# Altium footprint library IC_BQ27441DRZR-G1A.PcbLib: 1 footprints
Each footprint in its own frame and in the unit in brackets; x right, y up, seen from the top. Pads: shape width x height; smd on the part's side, far side on the other; paste and mask are expansions set on the pad; w line width, h text height; cw(c..) or ccw(c..) is an arc to the next point about the centre after c.
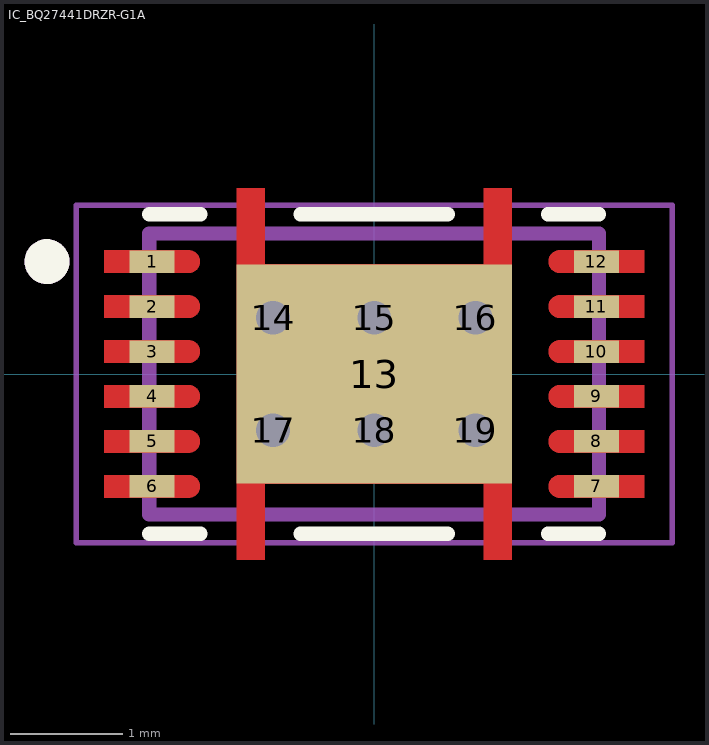
[diagram p0: the footprint, top view; thin cyan lines are the x and y axes]

## IC_BQ27441DRZR-G1A [mm]
pads (19):
  rect 0.4x0.2 smd paste-1 mask+0: 1(-1.975,1) 2(-1.975,0.6) 3(-1.975,0.2) 4(-1.975,-0.2) 5(-1.975,-0.6) 6(-1.975,-1) 7(1.975,-1) 8(1.975,-0.6) 9(1.975,-0.2) 10(1.975,0.2) 11(1.975,0.6) 12(1.975,1)
  rect 2.45x1.95 smd paste-2 mask+0: 13(0,0)
  round 0.5 hole 0.3: 14(-0.9,0.5) 15(0,0.5) 16(0.9,0.5) 17(-0.9,-0.5) 18(0,-0.5) 19(0.9,-0.5)
Top Layer:
  region: 2.4,0.9 1.65,0.9 1.645,0.9 1.64,0.901 1.634,0.901 1.629,0.902 1.624,0.903 1.619,0.905 1.614,0.907 1.609,0.909 1.605,0.911 1.6,0.913 1.596,0.916 1.591,0.919 1.587,0.922 1.583,0.926 1.579,0.929 1.576,0.933 1.572,0.937 1.569,0.941 1.566,0.946 1.563,0.95 1.561,0.955 1.559,0.959 1.557,0.964 1.555,0.969 1.553,0.974 1.552,0.979 1.551,0.984 1.551,0.99 1.55,0.995 1.55,1 1.55,1.005 1.551,1.01 1.551,1.016 1.552,1.021 1.553,1.026 1.555,1.031 1.557,1.036 1.559,1.041 1.561,1.045 1.563,1.05 1.566,1.054 1.569,1.059 1.572,1.063 1.576,1.067 1.579,1.071 1.583,1.074 1.587,1.078 1.591,1.081 1.596,1.084 1.6,1.087 1.605,1.089 1.609,1.091 1.614,1.093 1.619,1.095 1.624,1.097 1.629,1.098 1.634,1.099 1.64,1.099 1.645,1.1 1.65,1.1 2.4,1.1
  region: 2.4,0.5 1.65,0.5 1.645,0.5 1.64,0.501 1.634,0.501 1.629,0.502 1.624,0.503 1.619,0.505 1.614,0.507 1.609,0.509 1.605,0.511 1.6,0.513 1.596,0.516 1.591,0.519 1.587,0.522 1.583,0.526 1.579,0.529 1.576,0.533 1.572,0.537 1.569,0.541 1.566,0.546 1.563,0.55 1.561,0.555 1.559,0.559 1.557,0.564 1.555,0.569 1.553,0.574 1.552,0.579 1.551,0.584 1.551,0.59 1.55,0.595 1.55,0.6 1.55,0.605 1.551,0.61 1.551,0.616 1.552,0.621 1.553,0.626 1.555,0.631 1.557,0.636 1.559,0.641 1.561,0.645 1.563,0.65 1.566,0.654 1.569,0.659 1.572,0.663 1.576,0.667 1.579,0.671 1.583,0.674 1.587,0.678 1.591,0.681 1.596,0.684 1.6,0.687 1.605,0.689 1.609,0.691 1.614,0.693 1.619,0.695 1.624,0.697 1.629,0.698 1.634,0.699 1.64,0.699 1.645,0.7 1.65,0.7 2.4,0.7
  region: 2.4,0.1 1.65,0.1 1.645,0.1 1.64,0.101 1.634,0.101 1.629,0.102 1.624,0.103 1.619,0.105 1.614,0.107 1.609,0.109 1.605,0.111 1.6,0.113 1.596,0.116 1.591,0.119 1.587,0.122 1.583,0.126 1.579,0.129 1.576,0.133 1.572,0.137 1.569,0.141 1.566,0.146 1.563,0.15 1.561,0.155 1.559,0.159 1.557,0.164 1.555,0.169 1.553,0.174 1.552,0.179 1.551,0.184 1.551,0.19 1.55,0.195 1.55,0.2 1.55,0.205 1.551,0.21 1.551,0.216 1.552,0.221 1.553,0.226 1.555,0.231 1.557,0.236 1.559,0.241 1.561,0.245 1.563,0.25 1.566,0.254 1.569,0.259 1.572,0.263 1.576,0.267 1.579,0.271 1.583,0.274 1.587,0.278 1.591,0.281 1.596,0.284 1.6,0.287 1.605,0.289 1.609,0.291 1.614,0.293 1.619,0.295 1.624,0.297 1.629,0.298 1.634,0.299 1.64,0.299 1.645,0.3 1.65,0.3 2.4,0.3
  region: 2.4,-0.3 1.65,-0.3 1.645,-0.3 1.64,-0.299 1.634,-0.299 1.629,-0.298 1.624,-0.297 1.619,-0.295 1.614,-0.293 1.609,-0.291 1.605,-0.289 1.6,-0.287 1.596,-0.284 1.591,-0.281 1.587,-0.278 1.583,-0.274 1.579,-0.271 1.576,-0.267 1.572,-0.263 1.569,-0.259 1.566,-0.254 1.563,-0.25 1.561,-0.245 1.559,-0.241 1.557,-0.236 1.555,-0.231 1.553,-0.226 1.552,-0.221 1.551,-0.216 1.551,-0.21 1.55,-0.205 1.55,-0.2 1.55,-0.195 1.551,-0.19 1.551,-0.184 1.552,-0.179 1.553,-0.174 1.555,-0.169 1.557,-0.164 1.559,-0.159 1.561,-0.155 1.563,-0.15 1.566,-0.146 1.569,-0.141 1.572,-0.137 1.576,-0.133 1.579,-0.129 1.583,-0.126 1.587,-0.122 1.591,-0.119 1.596,-0.116 1.6,-0.113 1.605,-0.111 1.609,-0.109 1.614,-0.107 1.619,-0.105 1.624,-0.103 1.629,-0.102 1.634,-0.101 1.64,-0.101 1.645,-0.1 1.65,-0.1 2.4,-0.1
  region: 2.4,-0.7 1.65,-0.7 1.645,-0.7 1.64,-0.699 1.634,-0.699 1.629,-0.698 1.624,-0.697 1.619,-0.695 1.614,-0.693 1.609,-0.691 1.605,-0.689 1.6,-0.687 1.596,-0.684 1.591,-0.681 1.587,-0.678 1.583,-0.674 1.579,-0.671 1.576,-0.667 1.572,-0.663 1.569,-0.659 1.566,-0.654 1.563,-0.65 1.561,-0.645 1.559,-0.641 1.557,-0.636 1.555,-0.631 1.553,-0.626 1.552,-0.621 1.551,-0.616 1.551,-0.61 1.55,-0.605 1.55,-0.6 1.55,-0.595 1.551,-0.59 1.551,-0.584 1.552,-0.579 1.553,-0.574 1.555,-0.569 1.557,-0.564 1.559,-0.559 1.561,-0.555 1.563,-0.55 1.566,-0.546 1.569,-0.541 1.572,-0.537 1.576,-0.533 1.579,-0.529 1.583,-0.526 1.587,-0.522 1.591,-0.519 1.596,-0.516 1.6,-0.513 1.605,-0.511 1.609,-0.509 1.614,-0.507 1.619,-0.505 1.624,-0.503 1.629,-0.502 1.634,-0.501 1.64,-0.501 1.645,-0.5 1.65,-0.5 2.4,-0.5
  region: 2.4,-1.1 1.65,-1.1 1.645,-1.1 1.64,-1.099 1.634,-1.099 1.629,-1.098 1.624,-1.097 1.619,-1.095 1.614,-1.093 1.609,-1.091 1.605,-1.089 1.6,-1.087 1.596,-1.084 1.591,-1.081 1.587,-1.078 1.583,-1.074 1.579,-1.071 1.576,-1.067 1.572,-1.063 1.569,-1.059 1.566,-1.054 1.563,-1.05 1.561,-1.045 1.559,-1.041 1.557,-1.036 1.555,-1.031 1.553,-1.026 1.552,-1.021 1.551,-1.016 1.551,-1.01 1.55,-1.005 1.55,-1 1.55,-0.995 1.551,-0.99 1.551,-0.984 1.552,-0.979 1.553,-0.974 1.555,-0.969 1.557,-0.964 1.559,-0.959 1.561,-0.955 1.563,-0.95 1.566,-0.946 1.569,-0.941 1.572,-0.937 1.576,-0.933 1.579,-0.929 1.583,-0.926 1.587,-0.922 1.591,-0.919 1.596,-0.916 1.6,-0.913 1.605,-0.911 1.609,-0.909 1.614,-0.907 1.619,-0.905 1.624,-0.903 1.629,-0.902 1.634,-0.901 1.64,-0.901 1.645,-0.9 1.65,-0.9 2.4,-0.9
  region: -1.645,-0.9 -1.64,-0.901 -1.634,-0.901 -1.629,-0.902 -1.624,-0.903 -1.619,-0.905 -1.614,-0.907 -1.609,-0.909 -1.605,-0.911 -1.6,-0.913 -1.596,-0.916 -1.591,-0.919 -1.587,-0.922 -1.583,-0.926 -1.579,-0.929 -1.576,-0.933 -1.572,-0.937 -1.569,-0.941 -1.566,-0.946 -1.563,-0.95 -1.561,-0.955 -1.559,-0.959 -1.557,-0.964 -1.555,-0.969 -1.553,-0.974 -1.552,-0.979 -1.551,-0.984 -1.551,-0.99 -1.55,-0.995 -1.55,-1 -1.55,-1.005 -1.551,-1.01 -1.551,-1.016 -1.552,-1.021 -1.553,-1.026 -1.555,-1.031 -1.557,-1.036 -1.559,-1.041 -1.561,-1.045 -1.563,-1.05 -1.566,-1.054 -1.569,-1.059 -1.572,-1.063 -1.576,-1.067 -1.579,-1.071 -1.583,-1.074 -1.587,-1.078 -1.591,-1.081 -1.596,-1.084 -1.6,-1.087 -1.605,-1.089 -1.609,-1.091 -1.614,-1.093 -1.619,-1.095 -1.624,-1.097 -1.629,-1.098 -1.634,-1.099 -1.64,-1.099 -1.645,-1.1 -1.65,-1.1 -2.4,-1.1 -2.4,-0.9 -1.65,-0.9
  region: -1.645,-0.5 -1.64,-0.501 -1.634,-0.501 -1.629,-0.502 -1.624,-0.503 -1.619,-0.505 -1.614,-0.507 -1.609,-0.509 -1.605,-0.511 -1.6,-0.513 -1.596,-0.516 -1.591,-0.519 -1.587,-0.522 -1.583,-0.526 -1.579,-0.529 -1.576,-0.533 -1.572,-0.537 -1.569,-0.541 -1.566,-0.546 -1.563,-0.55 -1.561,-0.555 -1.559,-0.559 -1.557,-0.564 -1.555,-0.569 -1.553,-0.574 -1.552,-0.579 -1.551,-0.584 -1.551,-0.59 -1.55,-0.595 -1.55,-0.6 -1.55,-0.605 -1.551,-0.61 -1.551,-0.616 -1.552,-0.621 -1.553,-0.626 -1.555,-0.631 -1.557,-0.636 -1.559,-0.641 -1.561,-0.645 -1.563,-0.65 -1.566,-0.654 -1.569,-0.659 -1.572,-0.663 -1.576,-0.667 -1.579,-0.671 -1.583,-0.674 -1.587,-0.678 -1.591,-0.681 -1.596,-0.684 -1.6,-0.687 -1.605,-0.689 -1.609,-0.691 -1.614,-0.693 -1.619,-0.695 -1.624,-0.697 -1.629,-0.698 -1.634,-0.699 -1.64,-0.699 -1.645,-0.7 -1.65,-0.7 -2.4,-0.7 -2.4,-0.5 -1.65,-0.5
  region: -1.645,-0.1 -1.64,-0.101 -1.634,-0.101 -1.629,-0.102 -1.624,-0.103 -1.619,-0.105 -1.614,-0.107 -1.609,-0.109 -1.605,-0.111 -1.6,-0.113 -1.596,-0.116 -1.591,-0.119 -1.587,-0.122 -1.583,-0.126 -1.579,-0.129 -1.576,-0.133 -1.572,-0.137 -1.569,-0.141 -1.566,-0.146 -1.563,-0.15 -1.561,-0.155 -1.559,-0.159 -1.557,-0.164 -1.555,-0.169 -1.553,-0.174 -1.552,-0.179 -1.551,-0.184 -1.551,-0.19 -1.55,-0.195 -1.55,-0.2 -1.55,-0.205 -1.551,-0.21 -1.551,-0.216 -1.552,-0.221 -1.553,-0.226 -1.555,-0.231 -1.557,-0.236 -1.559,-0.241 -1.561,-0.245 -1.563,-0.25 -1.566,-0.254 -1.569,-0.259 -1.572,-0.263 -1.576,-0.267 -1.579,-0.271 -1.583,-0.274 -1.587,-0.278 -1.591,-0.281 -1.596,-0.284 -1.6,-0.287 -1.605,-0.289 -1.609,-0.291 -1.614,-0.293 -1.619,-0.295 -1.624,-0.297 -1.629,-0.298 -1.634,-0.299 -1.64,-0.299 -1.645,-0.3 -1.65,-0.3 -2.4,-0.3 -2.4,-0.1 -1.65,-0.1
  region: -1.645,0.3 -1.64,0.299 -1.634,0.299 -1.629,0.298 -1.624,0.297 -1.619,0.295 -1.614,0.293 -1.609,0.291 -1.605,0.289 -1.6,0.287 -1.596,0.284 -1.591,0.281 -1.587,0.278 -1.583,0.274 -1.579,0.271 -1.576,0.267 -1.572,0.263 -1.569,0.259 -1.566,0.254 -1.563,0.25 -1.561,0.245 -1.559,0.241 -1.557,0.236 -1.555,0.231 -1.553,0.226 -1.552,0.221 -1.551,0.216 -1.551,0.21 -1.55,0.205 -1.55,0.2 -1.55,0.195 -1.551,0.19 -1.551,0.184 -1.552,0.179 -1.553,0.174 -1.555,0.169 -1.557,0.164 -1.559,0.159 -1.561,0.155 -1.563,0.15 -1.566,0.146 -1.569,0.141 -1.572,0.137 -1.576,0.133 -1.579,0.129 -1.583,0.126 -1.587,0.122 -1.591,0.119 -1.596,0.116 -1.6,0.113 -1.605,0.111 -1.609,0.109 -1.614,0.107 -1.619,0.105 -1.624,0.103 -1.629,0.102 -1.634,0.101 -1.64,0.101 -1.645,0.1 -1.65,0.1 -2.4,0.1 -2.4,0.3 -1.65,0.3
  region: -1.645,0.7 -1.64,0.699 -1.634,0.699 -1.629,0.698 -1.624,0.697 -1.619,0.695 -1.614,0.693 -1.609,0.691 -1.605,0.689 -1.6,0.687 -1.596,0.684 -1.591,0.681 -1.587,0.678 -1.583,0.674 -1.579,0.671 -1.576,0.667 -1.572,0.663 -1.569,0.659 -1.566,0.654 -1.563,0.65 -1.561,0.645 -1.559,0.641 -1.557,0.636 -1.555,0.631 -1.553,0.626 -1.552,0.621 -1.551,0.616 -1.551,0.61 -1.55,0.605 -1.55,0.6 -1.55,0.595 -1.551,0.59 -1.551,0.584 -1.552,0.579 -1.553,0.574 -1.555,0.569 -1.557,0.564 -1.559,0.559 -1.561,0.555 -1.563,0.55 -1.566,0.546 -1.569,0.541 -1.572,0.537 -1.576,0.533 -1.579,0.529 -1.583,0.526 -1.587,0.522 -1.591,0.519 -1.596,0.516 -1.6,0.513 -1.605,0.511 -1.609,0.509 -1.614,0.507 -1.619,0.505 -1.624,0.503 -1.629,0.502 -1.634,0.501 -1.64,0.501 -1.645,0.5 -1.65,0.5 -2.4,0.5 -2.4,0.7 -1.65,0.7
  region: -1.645,1.1 -1.64,1.099 -1.634,1.099 -1.629,1.098 -1.624,1.097 -1.619,1.095 -1.614,1.093 -1.609,1.091 -1.605,1.089 -1.6,1.087 -1.596,1.084 -1.591,1.081 -1.587,1.078 -1.583,1.074 -1.579,1.071 -1.576,1.067 -1.572,1.063 -1.569,1.059 -1.566,1.054 -1.563,1.05 -1.561,1.045 -1.559,1.041 -1.557,1.036 -1.555,1.031 -1.553,1.026 -1.552,1.021 -1.551,1.016 -1.551,1.01 -1.55,1.005 -1.55,1 -1.55,0.995 -1.551,0.99 -1.551,0.984 -1.552,0.979 -1.553,0.974 -1.555,0.969 -1.557,0.964 -1.559,0.959 -1.561,0.955 -1.563,0.95 -1.566,0.946 -1.569,0.941 -1.572,0.937 -1.576,0.933 -1.579,0.929 -1.583,0.926 -1.587,0.922 -1.591,0.919 -1.596,0.916 -1.6,0.913 -1.605,0.911 -1.609,0.909 -1.614,0.907 -1.619,0.905 -1.624,0.903 -1.629,0.902 -1.634,0.901 -1.64,0.901 -1.645,0.9 -1.65,0.9 -2.4,0.9 -2.4,1.1 -1.65,1.1
  region: 1.225,-1.65 0.975,-1.65 0.975,-0.975 -0.975,-0.975 -0.975,-1.65 -1.225,-1.65 -1.225,1.65 -0.975,1.65 -0.975,0.975 0.975,0.975 0.975,1.65 1.225,1.65
Top Overlay:
  circle w0.2: c-2.91,1 r0.1
  lines w0.127: -2,-1.42 -1.545,-1.42 ; -2,1.42 -1.545,1.42 ; -0.655,-1.42 0.655,-1.42 ; -0.655,1.42 0.655,1.42 ; 1.545,-1.42 2,-1.42 ; 1.545,1.42 2,1.42
Top Paste:
  drawing of 22 lines, arcs and shapes, not listed
Top Solder:
  drawing of 13 lines, arcs and shapes, not listed
Mechanical 13:
  circle w0.2: c-2.91,1 r0.1
  lines w0.127: -2,-1.25 -2,1.25 2,1.25 2,-1.25 -2,-1.25
Mechanical 15:
  lines w0.05: -2.65,-1.5 -2.65,1.5 2.65,1.5 2.65,-1.5 -2.65,-1.5
3D body "step_temp.STEP": height 0.96, standoff 0.01, extent -2.05,-1.25 2.05,1.25